# EAGLE library part EA_DOG-M_DISPLAY (library display_EA_DOG-M)
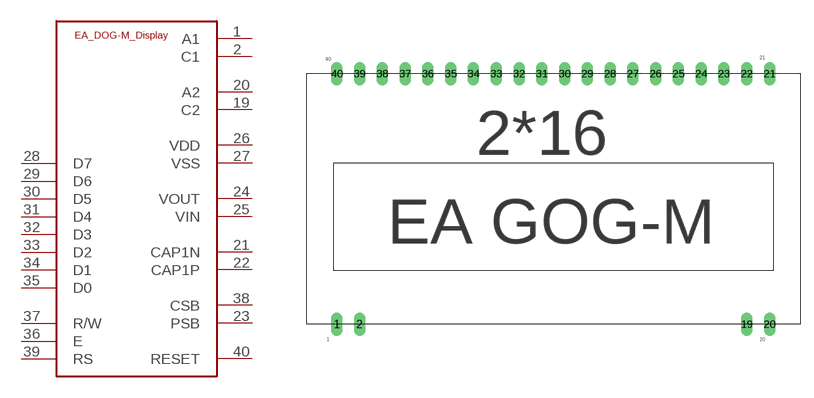
[diagram p0: symbol with the pads of E_DOG-M_DISPLAY; footprint E_DOG-M_DISPLAY]

Designator prefix -

## EA_DOG-M_DISPLAY  [E_DOG-M_DISPLAY]
1  A1
2  C1
19  C2
20  A2
21  CAP1N
22  CAP1P
23  PSB
24  VOUT
25  VIN
26  VDD  pwr
27  VSS  pwr
28  D7
29  D6
30  D5
31  D4
32  D3
33  D2
34  D1
35  D0
36  E
37  R/W
38  CSB
39  RS
40  RESET

## Footprint E_DOG-M_DISPLAY (pad centres in mm)
drill 0.8 long: 1 3.334,0; 2 5.874,0; 19 49.054,0; 20 51.594,0; 21 51.594,27.94; 22 49.054,27.94; 23 46.514,27.94; 24 43.974,27.94; 25 41.434,27.94; 26 38.894,27.94; 27 36.354,27.94; 28 33.814,27.94; 29 31.274,27.94; 30 28.734,27.94; 31 26.194,27.94; 32 23.654,27.94; 33 21.114,27.94; 34 18.574,27.94; 35 16.034,27.94; 36 13.494,27.94; 37 10.954,27.94; 38 8.414,27.94; 39 5.874,27.94; 40 3.334,27.94